# EAGLE library part BMD-350 (library BMD)
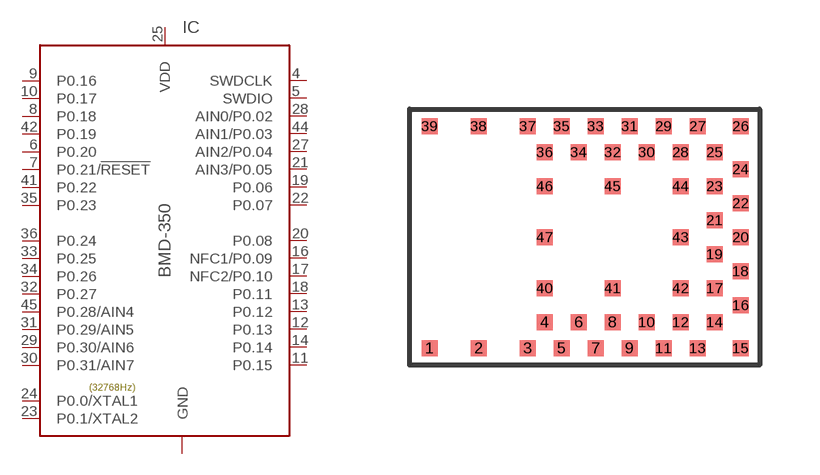
[diagram p0: symbol with the pads of BMD-35; footprint BMD-35]

Designator prefix IC

## BMD-350 (MARK: U-BLOX BMD-350; MF: Ublox; MPN: BMD-350-A-R)  [BMD-35]
1  GND  pwr
2  GND  pwr
3  GND  pwr
4  SWDCLK  in
5  SWDIO
6  P0.20
7  P0.21/!RESET
8  P0.18
9  P0.16
10  P0.17
11  P0.15
12  P0.13
13  P0.12
14  P0.14
15  GND  pwr
16  NFC1/P0.09
17  NFC2/P0.10
18  P0.11
19  P0.06
20  P0.08
21  AIN3/P0.05
22  P0.07
23  P0.1/XTAL2
24  P0.0/XTAL1
25  VDD  pwr
26  GND  pwr
27  AIN2/P0.04
28  AIN0/P0.02
29  P0.30/AIN6
30  P0.31/AIN7
31  P0.29/AIN5
32  P0.27
33  P0.25
34  P0.26
35  P0.23
36  P0.24
37  GND  pwr
38  GND  pwr
39  GND  pwr
40  GND  pwr
41  P0.22
42  P0.19
43  GND  pwr
44  AIN1/P0.03
45  P0.28/AIN4
46  GND  pwr
47  GND  pwr

## Footprint BMD-35 (pad centres in mm)
smd 0.4 x 0.4: 1 -3.875,-2.775; 2 -2.65,-2.775; 3 -1.425,-2.775; 4 -1,-2.125; 5 -0.575,-2.775; 6 -0.15,-2.125; 7 0.275,-2.775; 8 0.7,-2.125; 9 1.125,-2.775; 10 1.55,-2.125; 11 1.975,-2.775; 12 2.4,-2.125; 13 2.825,-2.775; 14 3.25,-2.125; 15 3.9,-2.775; 16 3.9,-1.7; 17 3.25,-1.275; 18 3.9,-0.85; 19 3.25,-0.425; 20 3.9,0; 21 3.25,0.425; 22 3.9,0.85; 23 3.25,1.275; 24 3.9,1.7; 25 3.25,2.125; 26 3.9,2.775; 27 2.825,2.775; 28 2.4,2.125; 29 1.975,2.775; 30 1.55,2.125; 31 1.125,2.775; 32 0.7,2.125; 33 0.275,2.775; 34 -0.15,2.125; 35 -0.575,2.775; 36 -1,2.125; 37 -1.425,2.775; 38 -2.65,2.775; 39 -3.875,2.775; 40 -1,-1.275; 41 0.7,-1.275; 42 2.4,-1.275; 43 2.4,0; 44 2.4,1.275; 45 0.7,1.275; 46 -1,1.275; 47 -1,0